# Altium footprint library 1571983-4TE.PcbLib: 1 footprints
Each footprint in its own frame and in the unit in brackets; x right, y up, seen from the top. Pads: shape width x height; smd on the part's side, far side on the other; paste and mask are expansions set on the pad; w line width, h text height; cw(c..) or ccw(c..) is an arc to the next point about the centre after c.
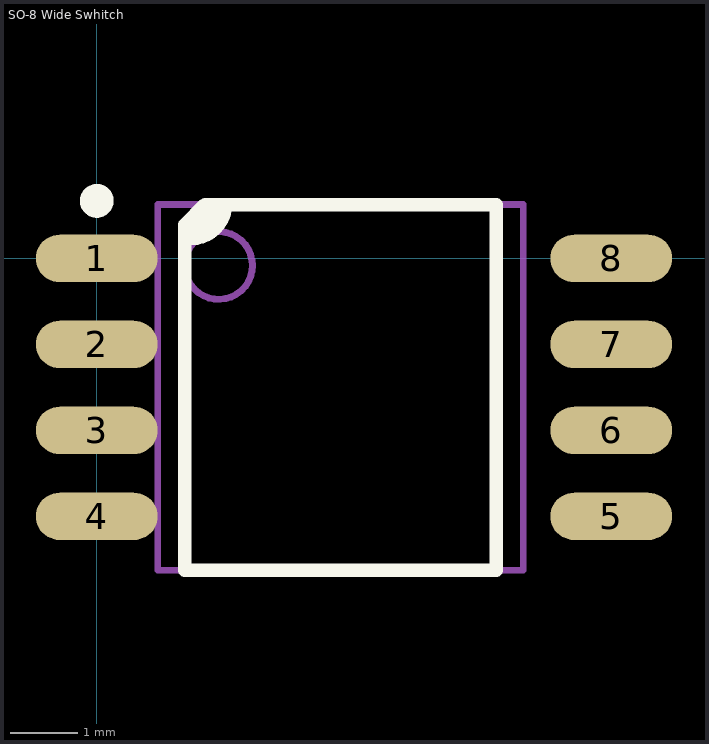
[diagram p0: the footprint, top view; thin cyan lines are the x and y axes]

## SO-8 Wide Swhitch [mm] "SOIC, 8-Leads, Body 5.24x5.29mm, Pitch 1.27mm, IPC Medium Density"
height 2.16
pads (8):
  oval 1.8x0.7 smd: 1(0,0) 2(0,-1.27) 3(0,-2.54) 4(0,-3.81) 5(7.6,-3.81) 6(7.6,-2.54) 7(7.6,-1.27) 8(7.6,0)
Top Overlay:
  circle w0.25: c0,0.85 r0.125
  region: 1.6,0.795 1.91,0.795 1.871,0.6 1.76,0.435 1.595,0.324 1.4,0.285 1.4,0.295 1.3,0.295 1.3,0.495
  lines w0.2: 1.3,0.295 1.4,0.295 ccw(c1.4,0.795) 1.9,0.795 ; 1.3,-4.605 1.3,0.495 1.6,0.795 5.9,0.795 5.9,-4.605 1.3,-4.605
Mechanical 13:
  circle w0.1: c1.8,-0.105 r0.5
  lines w0.1: 0.9,-4.605 0.9,0.795 6.3,0.795 6.3,-4.605 0.9,-4.605
3D body: height 2.29, standoff -0.01, extent -0.326,-5.029 7.794,1.181